# Altium integrated library TPS2121RUXT.IntLib: 1 symbol
Pins are listed as number, name and electrical type; pins without a type are passive.

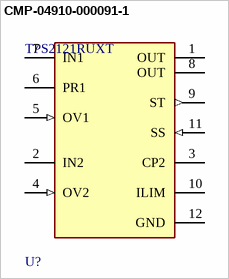
[diagram p0: symbol CMP-04910-000091-1]

## CMP-04910-000091-1
designator U?, comment TPS2121RUXT
PWR MGMT BATTERY MGMT
footprint FP-RUX0012A-MFG
pins: 1 OUT (power), 2 IN2 (power), 3 CP2, 4 OV2 (in), 5 OV1 (in), 6 PR1, 7 IN1 (power), 8 OUT, 9 ST (out), 10 ILIM, 11 SS (in), 12 GND (power)